# Altium footprint library MAX14850ASET.PcbLib: 1 footprints
Each footprint in its own frame and in the unit in brackets; x right, y up, seen from the top. Pads: shape width x height; smd on the part's side, far side on the other; paste and mask are expansions set on the pad; w line width, h text height; cw(c..) or ccw(c..) is an arc to the next point about the centre after c.
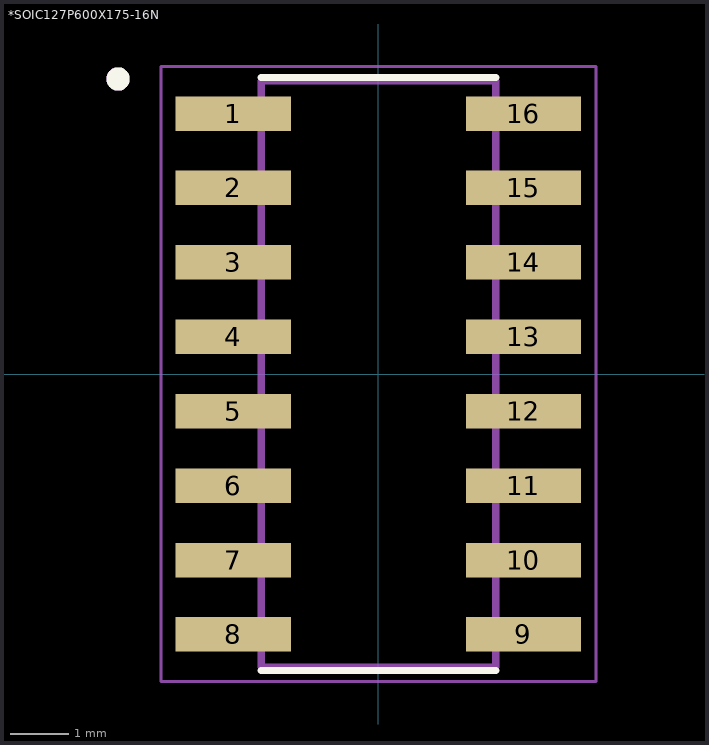
[diagram p0: the footprint, top view; thin cyan lines are the x and y axes]

## *SOIC127P600X175-16N [mm]
pads (16):
  rect 1.97x0.59 smd: 1(-2.475,4.445) 2(-2.475,3.175) 3(-2.475,1.905) 4(-2.475,0.635) 5(-2.475,-0.635) 6(-2.475,-1.905) 7(-2.475,-3.175) 8(-2.475,-4.445) 9(2.475,-4.445) 10(2.475,-3.175) 11(2.475,-1.905) 12(2.475,-0.635) 13(2.475,0.635) 14(2.475,1.905) 15(2.475,3.175) 16(2.475,4.445)
Top Overlay:
  circle w0.2: c-4.445,5.035 r0.1
  lines w0.127: -2,-5.06 2,-5.06 ; -2,5.06 2,5.06
Mechanical 4:
  circle w0.2: c-4.445,5.035 r0.1
  circle w0.2: c-4.445,5.035 r0.1
  lines w0.127: -2,-5 -2,5 ; -2,-5 2,-5 ; -2,-5 -2,5 ; -2,-5 2,-5 ; -2,5 2,5 ; -2,5 2,5 ; 2,-5 2,5 ; 2,-5 2,5
Mechanical 16:
  lines w0.05: -3.71,-5.25 -3.71,5.25 3.71,5.25 3.71,-5.25 -3.71,-5.25